# Altium footprint library buttons.PcbLib: 2 footprints
Each footprint in its own frame and in the unit in brackets; x right, y up, seen from the top. Pads: shape width x height; smd on the part's side, far side on the other; paste and mask are expansions set on the pad; w line width, h text height; cw(c..) or ccw(c..) is an arc to the next point about the centre after c.
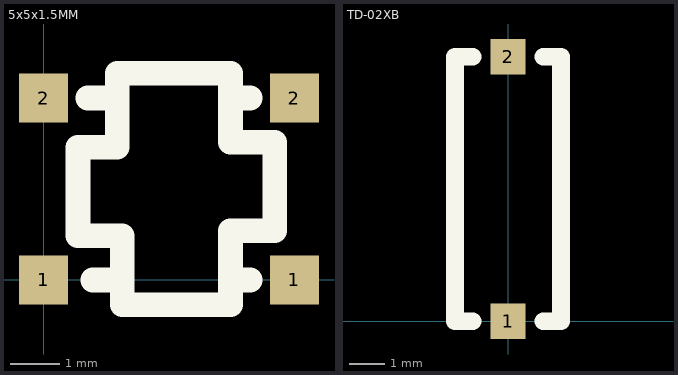
[diagram p0: the footprints below, top view; thin cyan lines are the x and y axes]

## 5x5x1.5MM [mm]
height 1.5
pads (4):
  rect 1x1 smd: 1(0,0) 1(5.1,0) 2(0,3.7) 2(5.1,3.7)
Top Overlay:
  lines w0.5: 0.9,3.7 1.2,3.7 ; 1,0 1.3,0 ; 3.9,0 4.2,0 ; 4,3.7 4.2,3.7 ; 0.7,0.9 1.6,0.9 1.6,-0.5 3.8,-0.5 3.8,1 4.7,1 4.7,2.8 3.8,2.8 3.8,4.2 1.5,4.2 1.5,2.7 0.7,2.7 0.7,0.9

## TD-02XB [mm]
height 0.127
pads (2):
  rect 1x1 smd: 1(0,0) 2(0,7.5)
Top Overlay:
  lines w0.5: -1,0 -1.5,0 -1.5,7.5 -1,7.5 ; 1,0 1.5,0 1.5,7.5 1,7.5